# EAGLE library part DIP-TRANS-8NPN-DARL-50V-0.5A-ULN2803(DIP18) (library Seeed-OPL-Transistor)
305050005
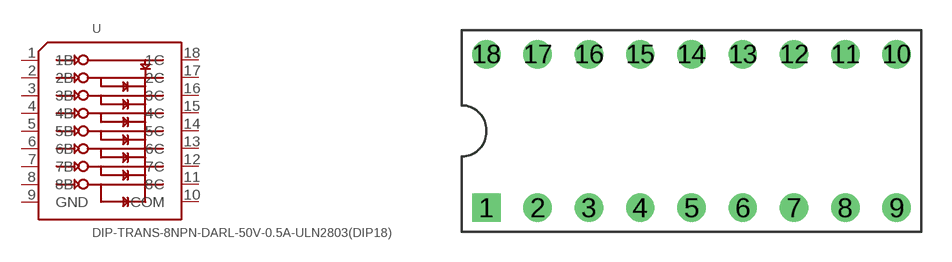
[diagram p4: symbol with the pads of DIP18-2.54-22.8X7.62MM; footprint DIP18-2.54-22.8X7.62MM]

Designator prefix U

## DIP-TRANS-8NPN-DARL-50V-0.5A-ULN2803(DIP18) (MPN: ULN2803APGCN; VALUE: ULN2803APGCN)  [DIP18-2.54-22.8X7.62MM]
1  1B
2  2B
3  3B
4  4B
5  5B
6  6B
7  7B
8  8B
9  GND
10  COM
11  8C
12  7C
13  6C
14  5C
15  4C
16  3C
17  2C
18  1C

## Footprint DIP18-2.54-22.8X7.62MM (pad centres in mm)
drill 0.9 pad 1.4 square: 1 -10.16,-3.81
drill 0.9 pad 1.4: 2 -7.62,-3.81; 3 -5.08,-3.81; 4 -2.54,-3.81; 5 0,-3.81; 6 2.54,-3.81; 7 5.08,-3.81; 8 7.62,-3.81; 9 10.16,-3.81; 10 10.16,3.81; 11 7.62,3.81; 12 5.08,3.81; 13 2.54,3.81; 14 0,3.81; 15 -2.54,3.81; 16 -5.08,3.81; 17 -7.62,3.81; 18 -10.16,3.81